# EAGLE library part W25Q16JVSSIQ (library W25Q16JVSSIQ)
3v 16m-Bit Serial Flash Memory With Dual Check availability <https://pricing.snapeda.com/parts/W25Q16JVSSIQ/Winbond%20Electronics/view-part?ref=eda>
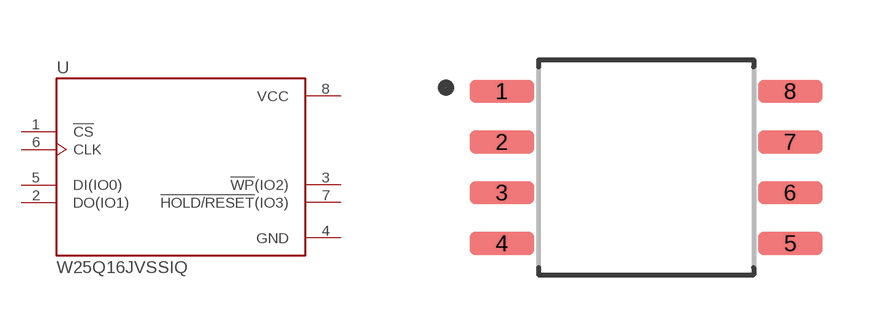
[diagram p0: symbol with the pads of SOIC127P790X216-8N; footprint SOIC127P790X216-8N]

Designator prefix U

## W25Q16JVSSIQ (Availability: In Stock; Description: FLASH - NOR Memory IC 16Mb (2M x 8) SPI - Quad I/O 133 MHz 8-SOIC; MF: Winbond Electronics; MP: W25Q16JVSSIQ; Package: SOIC-8 Winbond; Price: None; Purchase-URL: https://pricing.snapeda.com/search?q=W25Q16JVSSIQ&ref=eda)  [SOIC127P790X216-8N]
1  !CS  in
2  DO(IO1)
3  !WP!(IO2)
4  GND  pwr
5  DI(IO0)
6  CLK  in
7  !HOLD/RESET!(IO3)
8  VCC  pwr

## Footprint SOIC127P790X216-8N (pad centres in mm)
smd 1.61 x 0.58: 1 -3.605,1.905; 2 -3.605,0.635; 3 -3.605,-0.635; 4 -3.605,-1.905; 5 3.605,-1.905; 6 3.605,-0.635; 7 3.605,0.635; 8 3.605,1.905